# Altium schematic symbol library LPC546XX_CoreBoard.SchLib: 1 symbol
Pins are listed as number, name and electrical type; pins without a type are passive.

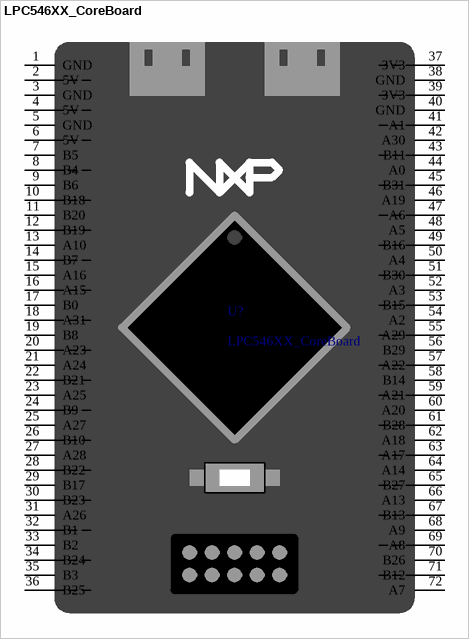
[diagram p0: symbol LPC546XX_CoreBoard]

## LPC546XX_CoreBoard
designator U?
逐飞科技LPC核心板整体原理，可直接使用
footprint LPC546XX_CoreBoard (逐飞科技LPC核心板整体封装，可直接使用)
pins: 1 GND, 2 5V, 3 GND, 4 5V, 5 GND, 6 5V, 7 B5, 8 B4, 9 B6, 10 B18, 11 B20, 12 B19, 13 A10, 14 B7, 15 A16, 16 A15, 17 B0, 18 A31, 19 B8, 20 A23, 21 A24, 22 B21, 23 A25, 24 B9, 25 A27, 26 B10, 27 A28, 28 B22, 29 B17, 30 B23, 31 A26, 32 B1, 33 B2, 34 B24, 35 B3, 36 B25, 37 3V3, 38 GND, 39 3V3, 40 GND, 41 A1, 42 A30, 43 B11, 44 A0, 45 B31, 46 A19, 47 A6, 48 A5, 49 B16, 50 A4, 51 B30, 52 A3, 53 B15, 54 A2, 55 A29, 56 B29, 57 A22, 58 B14, 59 A21, 60 A20, 61 B28, 62 A18, 63 A17, 64 A14, 65 B27, 66 A13, 67 B13, 68 A9, 69 A8, 70 B26, 71 B12, 72 A7